# Altium schematic symbol library Felix_Sch_lib.SchLib: 12 symbols
Pins are listed as number, name and electrical type; pins without a type are passive.

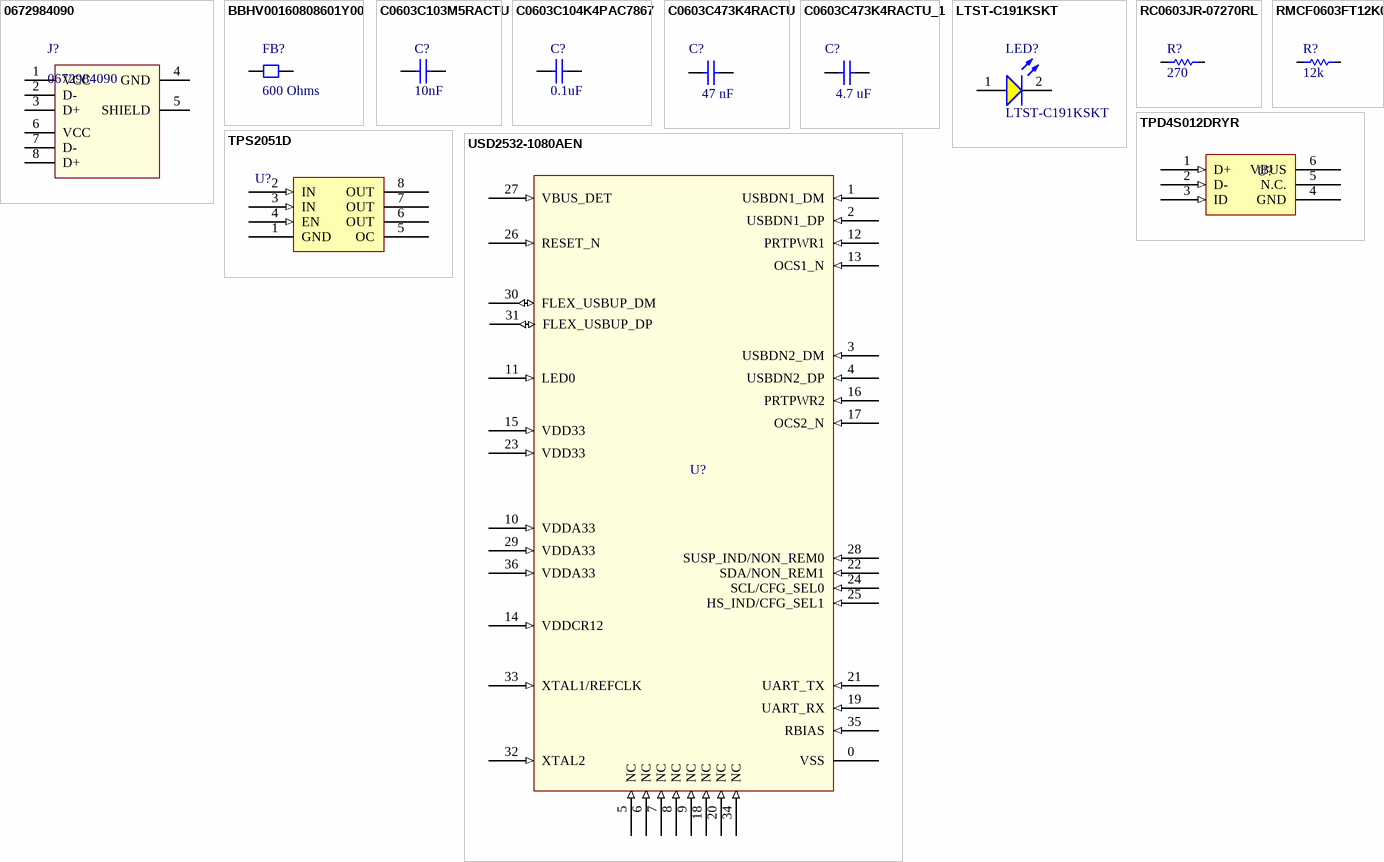
[diagram p0: symbols 0672984090 to USD2532-1080AEN]

## 0672984090
designator J?
CONN RCPT TYPEA STACKED 8POS R/A; Manufacturer: Molex; ComponentLink1 Description: Manufacturer; ComponentLink2 Description: Datasheet; ComponentLink1URL: http://www.we-online.de; ComponentLink2URL: http://katalog.we-online.de/em/datasheet/629105150521.pdf; Supplier: Digikey; Mounting Technology: THRU/SMD; Supplier Part No.: WM17130-ND; Package Description: CONN RCPT TYPEA STACKED 8POS R/A; Manufacturer Part No.: 0672984090; Package Reference: 0672984090; Datasheet: https://www.molex.com/pdm_docs/sd/672984090_sd.pdf
footprint Dual USB Connector Molex
pins: 1 VCC, 2 D-, 3 D+, 4 GND, 5 SHIELD, 6 VCC, 7 D-, 8 D+

## BBHV00160808601Y00
designator FB?, comment 600 Ohms
600 Ohms @ 100MHz Ferrite Bead 0603 2A 100mOhm; Manufacturer: Chilisin Electronics; Manufacturer Part No.: BBHV00160808601Y00; ComponentLink1Description: Manufacturer; ComponentLink1URL: http://www.we-online.de; Value: 600 Ohms; Rated Current: 2 A; Supplier Part No.: 2184-BBHV00160808601Y00CT-ND; Package Reference: FB_0603; Package Description: 0603; Mounting Technology: SMD; Datasheet: https://www.chilisin.com/upload/media/product/emi_bead/file/BBHV_Series.pdf; Tolerance: -; Supplier: Digi-Key; ComponentLink2Description: Datasheet; ComponentLink2URL: https://content.kemet.com/datasheets/KEM_C1002_X7R_SMD.pdf
footprint CAP_0603
pins: 1, 2

## C0603C103M5RACTU
designator C?, comment 10nF
CAP CER 10000PF 50V X7R 0603; Manufacturer: KEMET; Manufacturer Part No.: C0603C103M5RACTU; Rated Voltage: 16V; Tolerance: 20%; ComponentLink1Description: Manufacturer; ComponentLink1URL: http://www.we-online.de; Value: 10nF; Ceramic Type: X7R; Supplier Part No.: 399-7842-1-ND; Package Reference: CAP_0603; Package Description: 0603; Mounting Technology: SMD; Datasheet: https://api.kemet.com/component-edge/download/datasheet/C0603C103M5RACTU.pdf; Supplier: Digi-Key; ComponentLink2Description: Datasheet; ComponentLink2URL: https://content.kemet.com/datasheets/KEM_C1002_X7R_SMD.pdf
footprint CAP_0603
pins: 1, 2

## C0603C104K4PAC7867
designator C?, comment 0.1uF
CAP CER 0.1UF 16V X5R 0603; Manufacturer: KEMET; Manufacturer Part No.: C0603C104K4PAC7867; Tolerance: 5%; ComponentLink1Description: Manufacturer; ComponentLink1URL: http://www.we-online.de; Value: 0.1uF; Rated Voltage: 16V; Ceramic Type: X5R; Supplier Part No.: 399-14941-1-ND; Package Reference: CAP_0603; Package Description: 0603; Mounting Technology: SMD; Datasheet: https://api.kemet.com/component-edge/download/datasheet/C0603C104K4PAC7867.pdf; Supplier: Digi-Key; ComponentLink2Description: Datasheet; ComponentLink2URL: https://content.kemet.com/datasheets/KEM_C1002_X7R_SMD.pdf
footprint CAP_0603
pins: 1, 2

## C0603C473K4RACTU
designator C?, comment 47 nF
CAP CER 0.047UF 16V X7R 0603; Manufacturer Part No.: C0603C473K4RACTU; Manufacturer: KEMET; Tolerance: 10%; Rated Voltage: 16 VDC; ComponentLink1Description: Manufacturer; ComponentLink1URL: http://www.we-online.de; ComponentLink2Description: Datasheet; ComponentLink2URL: https://katalog.we-online.com/pbs/datasheet/865080345012.pdf; Mounting Technology: SMD; Value: 47 nF; Datasheet: https://api.kemet.com/component-edge/download/datasheet/C0603C473K4RACTU.pdf; Supplier: Digi-Key; Package Reference: CAP_0603; Supplier Part No.: 399-7932-2-ND; Package Description: 0603
footprint CAP_0603
pins: 1 N, 2 P

## C0603C473K4RACTU_1
designator C?, comment 4.7 uF
CAP CER 4.7UF 16V X5R 0603; Manufacturer Part No.: GRM188R61C475KAAJD; Manufacturer: Murata Electronics; Tolerance: 10%; Rated Voltage: 16 VDC; ComponentLink1Description: Manufacturer; ComponentLink1URL: http://www.we-online.de; ComponentLink2Description: Datasheet; ComponentLink2URL: https://katalog.we-online.com/pbs/datasheet/865080345012.pdf; Mounting Technology: SMD; Value: 4.7 uF; Datasheet: https://search.murata.co.jp/Ceramy/image/img/A01X/G101/ENG/GRM188R61C475KAAJ-01.pdf; Supplier: Digi-Key; Package Reference: CAP_0603; Supplier Part No.: 490-10481-1-ND; Package Description: 0603
footprint CAP_0603
pins: 1 N, 2 P

## LTST-C191KSKT
designator LED?
LED YELLOW CLEAR SMD 0603; Manufacturer: Lite-On Inc.; Vf: 2.1V; Test Current: 20 mA; ComponentLink1Description: Manufacturer; ComponentLink1URL: http://www.we-online.de; ComponentLink2Description: Datasheet; ComponentLink2URL: http://katalog.we-online.com/led/datasheet/150080BS75000.pdf; Color: Yellow; Manufacturer Part No.: LTST-C191KSKT; Supplier: Digi-Key; Package Reference: LED_0603; Supplier Part No.: 160-1448-1-ND; Mounting Technology: SMD; Datasheet: http://optoelectronics.liteon.com/upload/download/DS22-2000-224/LTST-C191KSKT.PDF
footprint LED_0603
pins: 1 A, 2 C

## RC0603JR-07270RL
designator R?, comment 270
RES SMD 270 OHM 5% 1/10W 0603; Manufacturer: Yageo; Manufacturer Part No.: RC0603JR-07270RL; Tolerance: 5%; Date: 2020; ComponentLink1Description: Manufacturer Link; ComponentLink1URL: http://www.vishay.com/company/brands/dale/; ComponentLink2Description: Datasheet; ComponentLink2URL: http://www.vishay.com/docs/20035/dcrcwe3.pdf; Supplier: Digikey; Supplier Part No.: 311-270GRCT-ND; Datasheet: https://www.yageo.com/upload/media/product/productsearch/datasheet/rchip/PYu-RC_Group_51_RoHS_L_10.pdf; Package Reference: RES_0603; Package Description: 0603; Mounting Technology: SMD; Power Rating: 1/10W; Value: 270
footprint RES_0603
pins: 1, 2

## RMCF0603FT12K0
designator R?, comment 12k
RES 12K OHM 1% 1/10W 0603; Manufacturer: Stackpole Electronics Inc; Manufacturer Part No.: RMCF0603FT12K0; Tolerance: 1%; Date: 2020; ComponentLink1Description: Manufacturer Link; ComponentLink1URL: http://www.vishay.com/company/brands/dale/; ComponentLink2Description: Datasheet; ComponentLink2URL: http://www.vishay.com/docs/20035/dcrcwe3.pdf; Supplier: Digikey; Supplier Part No.: RMCF0603FT12K0CT-ND; Datasheet: https://www.seielect.com/catalog/sei-rmcf_rmcp.pdf; Package Reference: RES_0603; Package Description: 0603; Mounting Technology: SMD; Power Rating: 1/10W; Value: 12k
footprint RES_0603
pins: 1, 2

## TPD4S012DRYR
designator U?
TVS DIODE 5.5V 6SON; Manufacturer: Texas Instruments; Manufacturer Part No.: TPD4S012DRYR; ComponentLink1Description: Manufacturer Link; ComponentLink1URL: http://www.vishay.com/company/brands/dale/; ComponentLink2Description: Datasheet; ComponentLink2URL: http://www.vishay.com/docs/20035/dcrcwe3.pdf; Supplier: Digikey; Supplier Part No.: 296-24244-1-ND; Datasheet: http://www.ti.com/general/docs/suppproductinfo.tsp?distId=10&gotoUrl=http%3A%2F%2Fwww.ti.com%2Flit%2Fgpn%2Ftpd4s012; Package Reference: 6SON; Package Description: SON; Mounting Technology: SMD
footprint SON50P100X60-6N (SON, 6-Leads, Body 1.45x1.00mm, Pitch 0.50mm, IPC Medium Density)
pins: 1 D+ (in) "ESD Clamp", 2 D- (in) "ESD Clamp", 3 ID (in) "ESD Clamp", 4 GND (power) "Ground", 5 N.C. "Not connected", 6 VBUS (power) "ESD Clamp"

## TPS2051D
designator U?
IC PWR SWITCH N-CHAN 1:1 8SOIC; Manufacturer: Texas Instruments; Manufacturer Part No.: TPS2051D; ComponentLink1Description: Manufacturer Link; ComponentLink1URL: http://www.vishay.com/company/brands/dale/; ComponentLink2Description: Datasheet; ComponentLink2URL: http://www.vishay.com/docs/20035/dcrcwe3.pdf; Supplier: Digikey; Supplier Part No.: 296-2576-5-ND; Datasheet: http://www.ti.com/lit/pdf/slvs172; Package Reference: 8-SOIC; Package Description: SOIC; Mounting Technology: SMD
footprint SOIC127P600X175-8N (SOIC, 8-Leads, Body 4.91x3.90mm, Pitch 1.27mm, IPC Medium Density)
pins: 1 GND (power) "Ground", 2 IN (in) "Input voltage", 3 IN (in) "Input voltage", 4 EN (in) "Enable input. Logic high turns on power switch", 5 OC "Over current. Logic output active low", 6 OUT "Power-switch output", 7 OUT "Power-switch output", 8 OUT "Power-switch output"

## USD2532-1080AEN
designator U?
IC USB 2.0 HUB CTLR 2PORT 36SQFN; Manufacturer: Microchip Technology; Manufacturer Part No.: USB2532-1080AEN; ComponentLink1Description: Manufacturer Link; ComponentLink1URL: http://www.vishay.com/company/brands/dale/; ComponentLink2Description: Datasheet; ComponentLink2URL: http://www.vishay.com/docs/20035/dcrcwe3.pdf; Supplier: Digikey; Supplier Part No.: USB2532-1080AEN-ND; Datasheet: http://www.microchip.com/mymicrochip/filehandler.aspx?ddocname=en567006; Package Reference: 36SQFN; Package Description: QFN; Mounting Technology: SMD
footprint DUAL_USB_HUB (QFN, 36-Leads, Body 6.00x6.00mm, Pitch 0.50mm, Thermal Pad 3.70x3.70mm, IPC Medium Density)
pins: 0 VSS (power) "ground pad", 1 USBDN1_DM (in), 2 USBDN1_DP (in), 3 USBDN2_DM (in), 4 USBDN2_DP (in), 5 NC (in), 6 NC (in), 7 NC (in), 8 NC (in), 9 NC (in), 10 VDDA33 (in), 11 LED0 (in), 12 PRTPWR1 (in), 13 OCS1_N (in), 14 VDDCR12 (in), 15 VDD33 (in), 16 PRTPWR2 (in), 17 OCS2_N (in), 18 NC (in), 19 UART_RX (in), 20 NC (in), 21 UART_TX (in), 22 SDA/NON_REM1 (in), 23 VDD33 (in), 24 SCL/CFG_SEL0 (in), 25 HS_IND/CFG_SEL1 (in), 26 RESET_N (in), 27 VBUS_DET (in), 28 SUSP_IND/NON_REM0 (in), 29 VDDA33 (in), 30 FLEX_USBUP_DM (io), 31 FLEX_USBUP_DP (io), 32 XTAL2 (in), 33 XTAL1/REFCLK (in), 34 NC (in), 35 RBIAS (in), 36 VDDA33 (in)